# Altium schematic symbol library Sensors.SchLib: 10 symbols
Pins are listed as number, name and electrical type; pins without a type are passive.

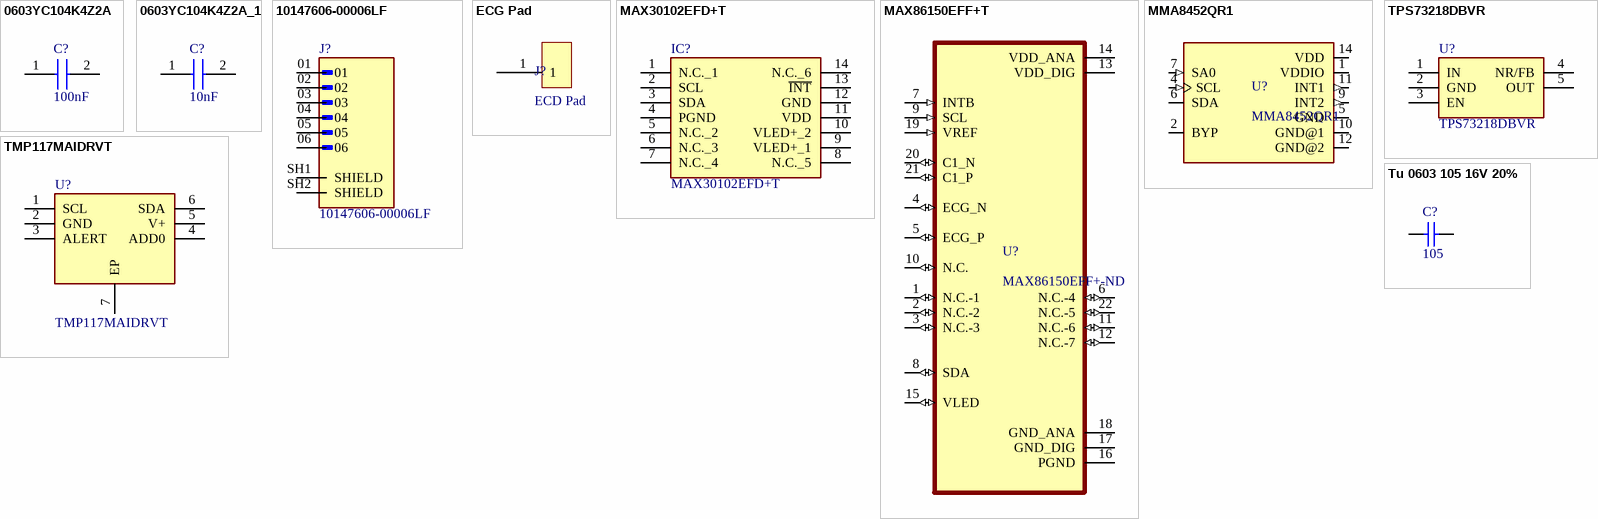
[diagram p0: symbols 0603YC104K4Z2A to Tu 0603 105 16V 20%]

## 0603YC104K4Z2A
designator C?, comment 100nF
Capacitor 100nF 0603; Manufacturer_Name: Kyocera AVX; Manufacturer_Part_Number: 0603YC104K4Z2A; Datasheet Link: https://componentsearchengine.com/Datasheets/1/06031A100FAT2A.pdf; Height: 0.9mm; Mouser Part Number: 581-0603YC104K4Z2A; Mouser Price/Stock: https://www.mouser.co.uk/ProductDetail/KYOCERA-AVX/0603YC104K4Z2A?qs=Cej1j9ztgjFQll8LvddlDw%3D%3D; Arrow Part Number: 0603YC104K4Z2A; Arrow Price/Stock: https://www.arrow.com/en/products/0603yc104k4z2a/avx
footprint CAPC1608X90N
pins: 1, 2

## 0603YC104K4Z2A_1
designator C?, comment 10nF
Capacitor 10nF 0603; Manufacturer_Name: Kyocera AVX; Manufacturer_Part_Number: 0603YC104K4Z2A; Datasheet Link: https://componentsearchengine.com/Datasheets/1/06031A100FAT2A.pdf; Height: 0.9mm; Mouser Part Number: 581-0603YC104K4Z2A; Mouser Price/Stock: https://www.mouser.co.uk/ProductDetail/KYOCERA-AVX/0603YC104K4Z2A?qs=Cej1j9ztgjFQll8LvddlDw%3D%3D; Arrow Part Number: 0603YC104K4Z2A; Arrow Price/Stock: https://www.arrow.com/en/products/0603yc104k4z2a/avx
footprint CAPC1608X90N
pins: 1, 2

## 10147606-00006LF
designator J?
Minitek 1.0mm R/A SMT Header, 6 Positions, Tin Plating, Natural Color; MF: Amphenol; SnapEDA_Link: https://www.snapeda.com/parts/10147606-00006LF/Amphenol/view-part/?ref=snap; Package: None; Value: *; MP: 10147606-00006LF; Check_prices: https://www.snapeda.com/parts/10147606-00006LF/Amphenol/view-part/?ref=eda
footprint AMPHENOL_10147606-00006LF
pins: 01, 02, 03, 04, 05, 06, SH1 SHIELD, SH2 SHIELD

## ECG Pad
designator J?, comment ECD Pad
1cm x 1cm ECG Pad
footprint ECG PAD - duplicate
pins: 1

## MAX30102EFD+T
designator IC?
Integrated Circuit; Manufacturer_Name: Analog Devices; Datasheet Link: https://www.analog.com/media/en/technical-documentation/data-sheets/MAX30102.pdf; Height: 1.65mm; Manufacturer_Part_Number: MAX30102EFD+T; Mouser Part Number: 700-MAX30102EFD+T; Mouser Price/Stock: https://www.mouser.co.uk/ProductDetail/Analog-Devices-Maxim-Integrated/MAX30102EFD%2bT?qs=nVS1qgv%252BQrkHA4%2FoFYriFA%3D%3D; Arrow Part Number: MAX30102EFD+T; Arrow Price/Stock: https://www.arrow.com/en/products/max30102efdt/analog-devices?region=nac
footprint MAX30102EFDT
pins: 1 N.C._1, 2 SCL, 3 SDA, 4 PGND, 5 N.C._2, 6 N.C._3, 7 N.C._4, 8 N.C._5, 9 VLED+_1, 10 VLED+_2, 11 VDD, 12 GND, 13 ~{INT}, 14 N.C._6

## MAX86150EFF+T
designator U?, comment MAX86150EFF+-ND
SENSOR - OXIMETER/HEART RATE I2C; MF: Analog Devices; SnapEDA_Link: https://www.snapeda.com/parts/MAX86150EFF+/Analog+Devices/view-part/?ref=snap; Package: OLGA-22 Maxim; Value: *; MP: MAX86150EFF+; Check_prices: https://www.snapeda.com/parts/MAX86150EFF+/Analog+Devices/view-part/?ref=eda
footprint MAX86150EFF+
pins: 1 N.C.-1 (io), 2 N.C.-2 (io), 3 N.C.-3 (io), 4 ECG_N (io), 5 ECG_P (io), 6 N.C.-4 (io), 7 INTB (in), 8 SDA (io), 9 SCL (in), 10 N.C. (io), 11 N.C.-6 (io), 12 N.C.-7 (io), 13 VDD_DIG (power), 14 VDD_ANA (power), 15 VLED (io), 16 PGND (power), 17 GND_DIG (power), 18 GND_ANA (power), 19 VREF (in), 20 C1_N (io), 21 C1_P (io), 22 N.C.-5 (io)

## MMA8452QR1
designator U?
Accelerometer X, Y, Z Axis Â±2g, 4g, 8g 0.78Hz ~ 400Hz 16-QFN (3x3); MF: NXP USA; Value: *; MP: MMA8452QR1; Package: QFN-16 NXP Semiconductors; Purchase-URL: https://pricing.snapeda.com/search/part/MMA8452QR1/?ref=eda; Check_prices: https://www.snapeda.com/parts/MMA8452QR1/NXP%20USA%20Inc./view-part/494506/?ref=eda; SnapEDA_Link: https://www.snapeda.com/parts/MMA8452QR1/NXP%20USA%20Inc./view-part/494506/?ref=snap; Digi-Key_Part_Number: MMA8452QR1CT-ND
footprint PQFN50P300X300X100-16N
pins: 1 VDDIO (power), 2 BYP, 4 SCL (in), 5 GND (power), 6 SDA (io), 7 SA0 (in), 9 INT2 (out), 10 GND@1 (power), 11 INT1 (out), 12 GND@2 (power), 14 VDD (power)

## TMP117MAIDRVT
designator U?
Integrated Circuit; Manufacturer_Name: Texas Instruments; Datasheet Link: http://www.ti.com/lit/ds/symlink/tmp117.pdf; Height: 0.8mm; Manufacturer_Part_Number: TMP117MAIDRVT; Mouser Part Number: 595-TMP117MAIDRVT; Mouser Price/Stock: https://www.mouser.co.uk/ProductDetail/Texas-Instruments/TMP117MAIDRVT?qs=qSfuJ%252Bfl%2Fd7%252B0%2FufpTVPxA%3D%3D; Arrow Part Number: TMP117MAIDRVT; Arrow Price/Stock: https://www.arrow.com/en/products/tmp117maidrvt/texas-instruments?utm_currency=USD&region=nac
footprint SON65P200X200X80-7N
pins: 1 SCL, 2 GND, 3 ALERT, 4 ADD0, 5 V+, 6 SDA, 7 EP

## TPS73218DBVR
designator U?
Integrated Circuit; Manufacturer_Name: Texas Instruments; Datasheet Link: http://www.ti.com/lit/gpn/TPS732; Height: 1.45mm; Manufacturer_Part_Number: TPS73218DBVR; Mouser Part Number: 595-TPS73218DBVR; Mouser Price/Stock: https://www.mouser.com/Search/Refine.aspx?Keyword=595-TPS73218DBVR
footprint SOT95P280X145-5N
pins: 1 IN, 2 GND, 3 EN, 4 NR/FB, 5 OUT

## Tu 0603 105 16V 20%
designator C?, comment 105
Dán; Don_Vi: Con; So_Chan: 2; Ten_Linh_Kien: Tụ 0603 105-1uF 20% 16V; Ma_Hang: MH004574; Chung_Loai: Dán; Kieu_Chan: *
footprint tu 0603 (Chip Capacitor, 2-Leads, Body 1,60x0,80mm, IPC Medium Density)
pins: 1, 2